# Altium schematic symbol library 2020-01-24_03-25-30.SchLib: 2 symbols
Pins are listed as number, name and electrical type; pins without a type are passive.

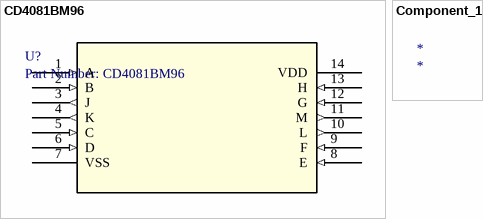
[diagram p0: symbols CD4081BM96 to Component_1]

## CD4081BM96
designator U?, comment Part Number: CD4081BM96
No Description Available; Vendor: Texas Instruments; Built_By: EMA_UL_Team; Manufacturer_Part_Number: CD4081BM96; Copyright: Copyright (C) 2018 Accelerated Designs. All rights reserved; RefDes: RefDes; Type: DEV; Value: Value
footprint D14
pins: 1 A (in), 2 B (in), 3 J (out), 4 K (out), 5 C (in), 6 D (in), 7 VSS, 8 E (in), 9 F (in), 10 L (out), 11 M (out), 12 G (in), 13 H (in), 14 VDD

## Component_1
designator *